# Altium footprint library NEW_PCB_2020-10-27_16-02-03.PcbLib: 1 footprints
Each footprint in its own frame and in the unit in brackets; x right, y up, seen from the top. Pads: shape width x height; smd on the part's side, far side on the other; paste and mask are expansions set on the pad; w line width, h text height; cw(c..) or ccw(c..) is an arc to the next point about the centre after c.
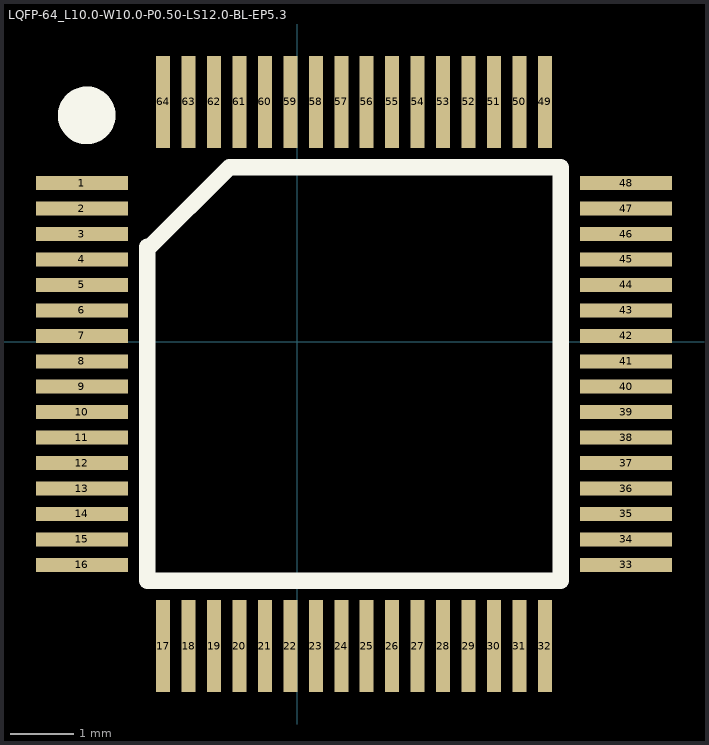
[diagram p0: the footprint, top view; thin cyan lines are the x and y axes]

## LQFP-64_L10.0-W10.0-P0.50-LS12.0-BL-EP5.3 [mm]
pads (64):
  rect 1.45x0.22 smd: 1(-3.386,2.492) 2(-3.386,2.092) 3(-3.386,1.692) 4(-3.386,1.292) 5(-3.386,0.892) 6(-3.386,0.492) 7(-3.386,0.092) 8(-3.386,-0.308) 9(-3.386,-0.708) 10(-3.386,-1.108) 11(-3.386,-1.508) 12(-3.386,-1.908) 13(-3.386,-2.308) 14(-3.386,-2.708) 15(-3.386,-3.108) 16(-3.386,-3.508) 33(5.164,-3.508) 34(5.164,-3.108) 35(5.164,-2.708) 36(5.164,-2.308) 37(5.164,-1.908) 38(5.164,-1.508) 39(5.164,-1.108) 40(5.164,-0.708) 41(5.164,-0.308) 42(5.164,0.092) 43(5.164,0.492) 44(5.164,0.892) 45(5.164,1.292) 46(5.164,1.692) 47(5.164,2.092) 48(5.164,2.492)
  rect 0.22x1.45 smd: 17(-2.111,-4.783) 18(-1.711,-4.783) 19(-1.311,-4.783) 20(-0.911,-4.783) 21(-0.511,-4.783) 22(-0.111,-4.783) 23(0.289,-4.783) 24(0.689,-4.783) 25(1.089,-4.783) 26(1.489,-4.783) 27(1.889,-4.783) 28(2.289,-4.783) 29(2.689,-4.783) 30(3.089,-4.783) 31(3.489,-4.783) 32(3.889,-4.783) 49(3.889,3.767) 50(3.489,3.767) 51(3.089,3.767) 52(2.689,3.767) 53(2.289,3.767) 54(1.889,3.767) 55(1.489,3.767) 56(1.089,3.767) 57(0.689,3.767) 58(0.289,3.767) 59(-0.111,3.767) 60(-0.511,3.767) 61(-0.911,3.767) 62(-1.311,3.767) 63(-1.711,3.767) 64(-2.111,3.767)
Top Overlay:
  circle w0.635: c-3.311,3.556 r0.136
  lines w0.254: -2.361,1.492 -2.361,-3.758 4.139,-3.758 4.139,2.742 -1.068,2.742 -2.35,1.46